# Altium integrated library Analog Devices Data Converters Digital-to-Analog Converters.IntLib: 2231 symbols (part 164 of 181)
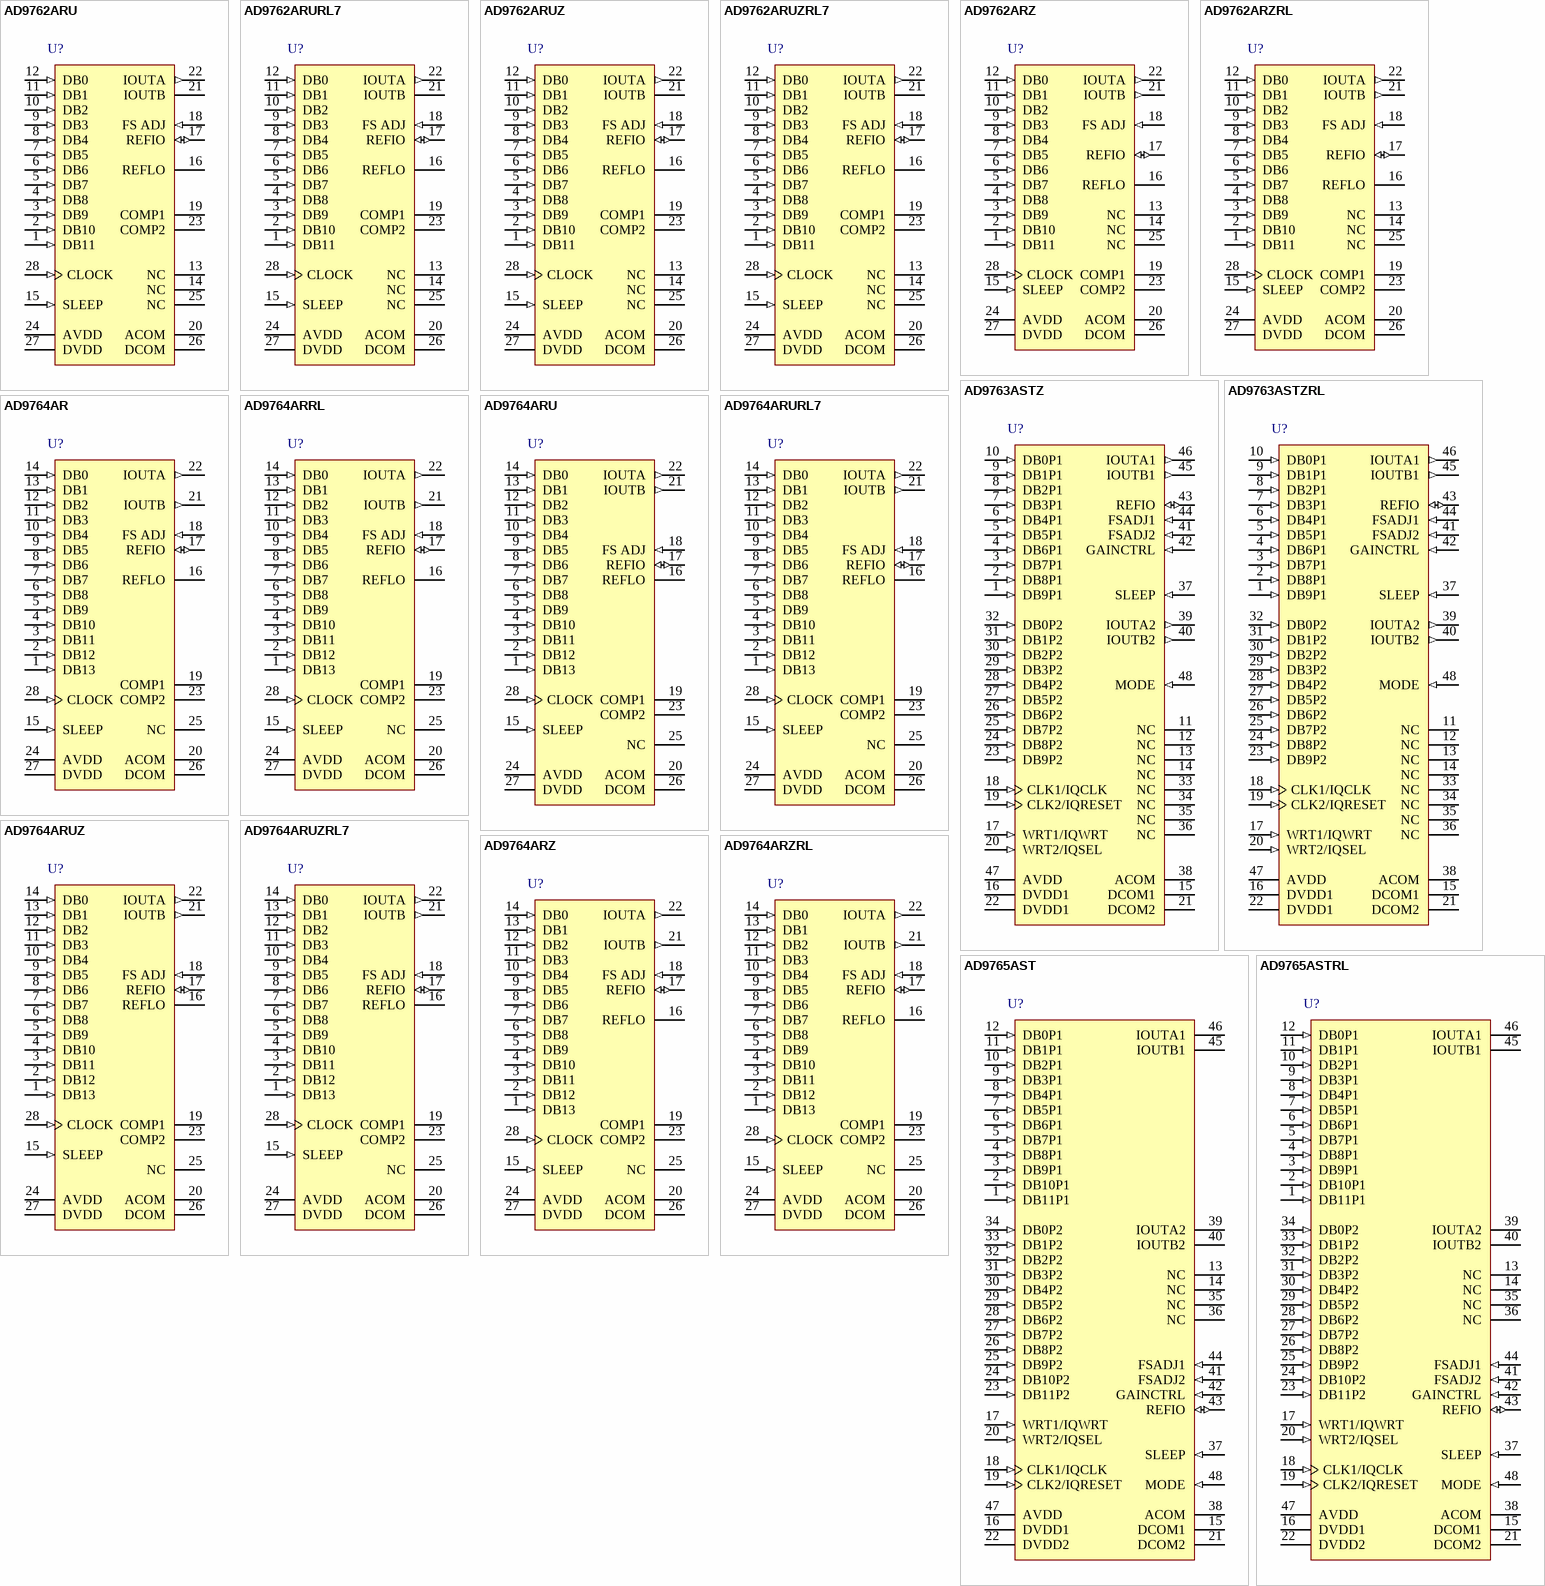
[diagram p277: symbols AD9762ARU to AD9765ASTRL]

## AD9762ARUZRL7
designator U?
Single 12-Bit TxDAC, 125 Msps, -40 to +85 degC, RU-28, Pb-Free, Reel; Generic Part Number: AD9762; Manufacturer: Analog Devices; PartNumber: AD9762ARUZRL7; # DAC Outputs: 1; Max V+: 5.5V; Op Pwr Diss: 160mW; Resolution (Bits): 12; Settling Time: 35ns; Single Supply: Yes; DatasheetVersion: Rev.B; PackageVersion: 2005; PackageReference: RU-28; PackageDescription: 28-Lead Thin Shrink Small Outline Package [TSSOP]; Supplier 1: Digi-Key; Supplier Part Number 1: AD9762ARUZRL7-ND; Supplier 2: Mouser; Supplier Part Number 2: 584-AD9762ARUZR7; Packing: Reel; RoHS: Y; Mounting Technology: Surface Mount; Code_JEDEC: MO-153-AE; ComponentLink1Description: Manufacturer URL; ComponentLink1URL: http://www.analog.com/en/index.html; ComponentLink2Description: Datasheet; ComponentLink2URL: http://www.analog.com/static/imported-files/data_sheets/AD9762.pdf; ComponentLink3Description: Package Specification; ComponentLink3URL: http://www.analog.com/static/imported-files/packages/249854663RU_28.pdf; ComponentLink4Description: Product URL; ComponentLink4URL: http://www.analog.com/en/digital-to-analog-converters/da-converters/ad9762/products/product.html
footprint RU-28_N (TSOP, 28-Leads, Body 9.7x4.4mm, Pitch 0.65mm, IPC Medium Density)
footprint RU-28_L (TSOP, 28-Leads, Body 9.7x4.4mm, Pitch 0.65mm, IPC High Density)
footprint RU-28_M (TSOP, 28-Leads, Body 9.7x4.4mm, Pitch 0.65mm, IPC Low Density)
pins: 1 DB11 (in) "Most Significant Data Bit (MSB).", 2 DB10 (in) "Data Bit 10", 3 DB9 (in) "Data Bit 9", 4 DB8 (in) "Data Bit 8", 5 DB7 (in) "Data Bit 7", 6 DB6 (in) "Data Bit 6", 7 DB5 (in) "Data Bit 5", 8 DB4 (in) "Data Bit 4", 9 DB3 (in) "Data Bit 3", 10 DB2 (in) "Data Bit 2", 11 DB1 (in) "Data Bit 1", 12 DB0 (in) "Least Significant Data Bit (LSB).", 13 NC "No Internal Connection.", 14 NC "No Internal Connection.", 15 SLEEP (in) "Power-down Control Input. Active High. Contains active pull-down circuit, thus may be left unterminated if not used.", 16 REFLO "Reference Ground when Internal 1.2 V Reference Used. Connect to AVDD to disable internal reference.", 17 REFIO (io) "Reference Input/Output. Serves as reference input when internal reference disabled (i.e., Tie REFLO to AVDD). Serves as 1.2 V reference output when internal reference activated (i.e., Tie REFLO to ACOM). Requires 0.1 uF (See Datasheet)", 18 FS ADJ (in) "Full-Scale Current Output Adjust.", 19 COMP1 "Bandwidth/Noise Reduction Node. Add 0.1 uF to AVDD for optimum performance.", 20 ACOM (power) "Analog Common.", 21 IOUTB "Complementary DAC Current Output. Full-scale current when all data bits are 0s.", 22 IOUTA (out) "DAC Current Output. Full-scale current when all data bits are 1s.", 23 COMP2 "Internal Bias Node for Switch Driver Circuitry. Decouple to ACOM with 0.1 uF capacitor.", 24 AVDD (power) "Analog Supply Voltage (+2.7 V to +5.5 V).", 25 NC "No Internal Connection.", 26 DCOM (power) "Digital Common.", 27 DVDD (power) "Digital Supply Voltage (+2.7 V to +5.5 V).", 28 CLOCK (in) "Clock Input. Data latched on positive edge of clock."

## AD9762ARZ
designator U?
Single 12-Bit TxDAC, 125 Msps, -40 to +85 degC, RW-28, Pb-Free, Tube; Generic Part Number: AD9762; Manufacturer: Analog Devices; PartNumber: AD9762ARZ; # DAC Outputs: 1; Max V+: 5.5V; Op Pwr Diss: 160mW; Resolution (Bits): 12; Settling Time: 35ns; Single Supply: Yes; DatasheetVersion: Rev.B; PackageVersion: 060706-A; PackageReference: RW-28; PackageDescription: 28-Lead Standard Small Outline Package [SOIC_W]; Supplier 1: Digi-Key; Supplier Part Number 1: AD9762ARZ-ND; Supplier 2: Farnell; Supplier Part Number 2: 2305703; Supplier 3: Newark; Supplier Part Number 3: 59K7401; Supplier 4: Mouser; Supplier Part Number 4: 584-AD9762ARZ; Packing: Tube; RoHS: Y; Mounting Technology: Surface Mount; Code_JEDEC: MS-013-AE; ComponentLink1Description: Manufacturer URL; ComponentLink1URL: http://www.analog.com/en/index.html; ComponentLink2Description: Datasheet; ComponentLink2URL: http://www.analog.com/static/imported-files/data_sheets/AD9762.pdf; ComponentLink3Description: Product URL; ComponentLink3URL: http://www.analog.com/en/digital-to-analog-converters/da-converters/ad9762/products/product.html
footprint RW-28_N (SOIC, 28-Leads, Body 17.9x7.5mm, Pitch 1.27mm, IPC Medium Density)
footprint RW-28_L (SOIC, 28-Leads, Body 17.9x7.5mm, Pitch 1.27mm, IPC High Density)
footprint RW-28_M (SOIC, 28-Leads, Body 17.9x7.5mm, Pitch 1.27mm, IPC Low Density)
pins: 1 DB11 (in) "Most Significant Data Bit (MSB).", 2 DB10 (in) "Data Bit 10", 3 DB9 (in) "Data Bit 9", 4 DB8 (in) "Data Bit 8", 5 DB7 (in) "Data Bit 7", 6 DB6 (in) "Data Bit 6", 7 DB5 (in) "Data Bit 5", 8 DB4 (in) "Data Bit 4", 9 DB3 (in) "Data Bit 3", 10 DB2 (in) "Data Bit 2", 11 DB1 (in) "Data Bit 1", 12 DB0 (in) "Least Significant Data Bit (LSB).", 13 NC "No Internal Connection.", 14 NC "No Internal Connection.", 15 SLEEP (in) "Power-down Control Input. Active High. Contains active pull-down circuit, thus may be left unterminated if not used.", 16 REFLO "Reference Ground when Internal 1.2 V Reference Used. Connect to AVDD to disable internal reference.", 17 REFIO (io) "Reference Input/Output. Serves as reference input when internal reference disabled (i.e., Tie REFLO to AVDD). Serves as 1.2 V reference output when internal reference activated (i.e., Tie REFLO to ACOM). Requires 0.1 uF (See Datasheet)", 18 FS ADJ (in) "Full-Scale Current Output Adjust.", 19 COMP1 "Bandwidth / Noise Reduction Node. Add 0.1 uF to AVDD for optimum performance.", 20 ACOM (power) "Analog Common.", 21 IOUTB (out) "Complementary DAC Current Output. Full-scale current when all data bits are 0s.", 22 IOUTA (out) "DAC Current Output. Full-scale current when all data bits are 1s.", 23 COMP2 "Internal Bias Node for Switch Driver Circuitry. Decouple to ACOM with 0.1 uF capacitor.", 24 AVDD (power) "Analog Supply Voltage (+2.7 V to +5.5 V).", 25 NC "No Internal Connection.", 26 DCOM (power) "Digital Common.", 27 DVDD (power) "Digital Supply Voltage (+2.7 V to +5.5 V).", 28 CLOCK (in) "Clock Input. Data latched on positive edge of clock."

## AD9762ARZRL
designator U?
Single 12-Bit TxDAC, 125 Msps, -40 to +85 degC, RW-28, Pb-Free, Reel; Generic Part Number: AD9762; Manufacturer: Analog Devices; PartNumber: AD9762ARZRL; # DAC Outputs: 1; Max V+: 5.5V; Op Pwr Diss: 160mW; Resolution (Bits): 12; Settling Time: 35ns; Single Supply: Yes; DatasheetVersion: Rev.B; PackageVersion: 060706-A; PackageReference: RW-28; PackageDescription: 28-Lead Standard Small Outline Package [SOIC_W]; Supplier 1: Digi-Key; Supplier Part Number 1: AD9762ARZRL-ND; Supplier 2: Newark; Supplier Part Number 2: 59K7402; Supplier 3: Mouser; Supplier Part Number 3: 584-AD9762ARZR; Packing: Reel; RoHS: Y; Mounting Technology: Surface Mount; Code_JEDEC: MS-013-AE; ComponentLink1Description: Manufacturer URL; ComponentLink1URL: http://www.analog.com/en/index.html; ComponentLink2Description: Datasheet; ComponentLink2URL: http://www.analog.com/static/imported-files/data_sheets/AD9762.pdf; ComponentLink3Description: Product URL; ComponentLink3URL: http://www.analog.com/en/digital-to-analog-converters/da-converters/ad9762/products/product.html
footprint RW-28_N (SOIC, 28-Leads, Body 17.9x7.5mm, Pitch 1.27mm, IPC Medium Density)
footprint RW-28_L (SOIC, 28-Leads, Body 17.9x7.5mm, Pitch 1.27mm, IPC High Density)
footprint RW-28_M (SOIC, 28-Leads, Body 17.9x7.5mm, Pitch 1.27mm, IPC Low Density)
pins: 1 DB11 (in) "Most Significant Data Bit (MSB).", 2 DB10 (in) "Data Bit 10", 3 DB9 (in) "Data Bit 9", 4 DB8 (in) "Data Bit 8", 5 DB7 (in) "Data Bit 7", 6 DB6 (in) "Data Bit 6", 7 DB5 (in) "Data Bit 5", 8 DB4 (in) "Data Bit 4", 9 DB3 (in) "Data Bit 3", 10 DB2 (in) "Data Bit 2", 11 DB1 (in) "Data Bit 1", 12 DB0 (in) "Least Significant Data Bit (LSB).", 13 NC "No Internal Connection.", 14 NC "No Internal Connection.", 15 SLEEP (in) "Power-down Control Input. Active High. Contains active pull-down circuit, thus may be left unterminated if not used.", 16 REFLO "Reference Ground when Internal 1.2 V Reference Used. Connect to AVDD to disable internal reference.", 17 REFIO (io) "Reference Input/Output. Serves as reference input when internal reference disabled (i.e., Tie REFLO to AVDD). Serves as 1.2 V reference output when internal reference activated (i.e., Tie REFLO to ACOM). Requires 0.1 uF (See Datasheet)", 18 FS ADJ (in) "Full-Scale Current Output Adjust.", 19 COMP1 "Bandwidth / Noise Reduction Node. Add 0.1 uF to AVDD for optimum performance.", 20 ACOM (power) "Analog Common.", 21 IOUTB (out) "Complementary DAC Current Output. Full-scale current when all data bits are 0s.", 22 IOUTA (out) "DAC Current Output. Full-scale current when all data bits are 1s.", 23 COMP2 "Internal Bias Node for Switch Driver Circuitry. Decouple to ACOM with 0.1 uF capacitor.", 24 AVDD (power) "Analog Supply Voltage (+2.7 V to +5.5 V).", 25 NC "No Internal Connection.", 26 DCOM (power) "Digital Common.", 27 DVDD (power) "Digital Supply Voltage (+2.7 V to +5.5 V).", 28 CLOCK (in) "Clock Input. Data latched on positive edge of clock."

## AD9763ASTZ
designator U?
Dual 10-Bit TxDAC+, 125 Msps, -40 to +85 degC, ST-48, Pb-Free, Tray; Generic Part Number: AD9763; Manufacturer: Analog Devices; PartNumber: AD9763ASTZ; # DAC Outputs: 2; Max V+: 5.5V; Op Pwr Diss: 450mW; Resolution (Bits): 10; Settling Time: 35ns; Single Supply: Yes; DatasheetVersion: Rev.G; PackageVersion: revA; PackageReference: ST-48; PackageDescription: 48-Pin Thin Quad Flat Pack 0.5 mm Pitch; Supplier 1: Digi-Key; Supplier Part Number 1: AD9763ASTZ-ND; Supplier 2: Farnell; Supplier Part Number 2: 2305704; Supplier 3: Newark; Supplier Part Number 3: 59K7404; Supplier 4: Mouser; Supplier Part Number 4: 584-AD9763ASTZ; Packing: Tray; RoHS: Y; Mounting Technology: Surface Mount; ComponentLink1Description: Manufacturer URL; ComponentLink1URL: http://www.analog.com/en/index.html; ComponentLink2Description: Datasheet; ComponentLink2URL: http://www.analog.com/static/imported-files/data_sheets/AD9763_9765_9767.pdf; ComponentLink3Description: Package Specification; ComponentLink3URL: http://www.analog.com/static/imported-files/packages/PKG_PDF/LQFP%28ST%29/ST_48.pdf; ComponentLink4Description: Product URL; ComponentLink4URL: http://www.analog.com/en/digital-to-analog-converters/da-converters/ad9763/products/product.html
footprint ST-48_N (Thin QFP, 48-Leads, Body 7x7mm, Pitch 0.5mm, IPC Medium Density)
footprint ST-48_L (Thin QFP, 48-Leads, Body 7x7mm, Pitch 0.5mm, IPC High Density)
footprint ST-48_M (Thin QFP, 48-Leads, Body 7x7mm, Pitch 0.5mm, IPC Low Density)
pins: 1 DB9P1 (in) "Data Bit Pin (Port 1)", 2 DB8P1 (in) "Data Bit Pin (Port 1)", 3 DB7P1 (in) "Data Bit Pin (Port 1)", 4 DB6P1 (in) "Data Bit Pin (Port 1)", 5 DB5P1 (in) "Data Bit Pin (Port 1)", 6 DB4P1 (in) "Data Bit Pin (Port 1)", 7 DB3P1 (in) "Data Bit Pin (Port 1)", 8 DB2P1 (in) "Data Bit Pin (Port 1)", 9 DB1P1 (in) "Data Bit Pin (Port 1)", 10 DB0P1 (in) "Data Bit Pin (Port 1)", 11 NC "No Connect", 12 NC "No Connect", 13 NC "No Connect", 14 NC "No Connect", 15 DCOM1 (power) "Digital Common", 16 DVDD1 (power) "Digital Supply Voltage", 17 WRT1/IQWRT (in) "Input Write Signal for PORT 1 (IQWRT in Interleaving Mode)", 18 CLK1/IQCLK (in) "Clock Input for DAC1 (IQCLK in Interleaving Mode)", 19 CLK2/IQRESET (in) "Clock Input for DAC2 (IQRESET in Interleaving Mode)", 20 WRT2/IQSEL (in) "Input Write Signal for PORT 2 (IQSEL in Interleaving Mode)", 21 DCOM2 (power) "Digital Common", 22 DVDD1 (power) "Digital Supply Voltage", 23 DB9P2 (in) "Data Bit Pin (Port 2)", 24 DB8P2 (in) "Data Bit Pin (Port 2)", 25 DB7P2 (in) "Data Bit Pin (Port 2)", 26 DB6P2 (in) "Data Bit Pin (Port 2)", 27 DB5P2 (in) "Data Bit Pin (Port 2)", 28 DB4P2 (in) "Data Bit Pin (Port 2)", 29 DB3P2 (in) "Data Bit Pin (Port 2)", 30 DB2P2 (in) "Data Bit Pin (Port 2)", 31 DB1P2 (in) "Data Bit Pin (Port 2)", 32 DB0P2 (in) "Data Bit Pin (Port 2)", 33 NC "No Connect", 34 NC "No Connect", 35 NC "No Connect", 36 NC "No Connect", 37 SLEEP (in) "Power-Down Control Input", 38 ACOM (power) "Analog Common", 39 IOUTA2 (out) "Port 2 Differential DAC Current Output", 40 IOUTB2 (out) "Port 2 Differential DAC Current Output", 41 FSADJ2 (in) "Full-Scale Current Output Adjust for DAC2", 42 GAINCTRL (in) "Master/Slave Resistor Control Mode", 43 REFIO (io) "Reference Input/Output", 44 FSADJ1 (in) "Full-Scale Current Output Adjust for DAC1", 45 IOUTB1 (out) "Port 1 Differential DAC Current Outputs", 46 IOUTA1 (out) "Port 1 Differential DAC Current Outputs", 47 AVDD (power) "Analog Supply Voltage", 48 MODE (in) "Mode Select (1 = dual port, 0 = interleaved)"

## AD9763ASTZRL
designator U?
Dual 10-Bit TxDAC+, 125 Msps, -40 to +85 degC, ST-48, Pb-Free, Reel; Generic Part Number: AD9763; Manufacturer: Analog Devices; PartNumber: AD9763ASTZRL; # DAC Outputs: 2; Max V+: 5.5V; Op Pwr Diss: 450mW; Resolution (Bits): 10; Settling Time: 35ns; Single Supply: Yes; DatasheetVersion: Rev.G; PackageVersion: revA; PackageReference: ST-48; PackageDescription: 48-Pin Thin Quad Flat Pack 0.5 mm Pitch; Supplier 1: Digi-Key; Supplier Part Number 1: AD9763ASTZRL-ND; Supplier 2: Mouser; Supplier Part Number 2: 584-AD9763ASTZR; Packing: Reel; RoHS: Y; Mounting Technology: Surface Mount; ComponentLink1Description: Manufacturer URL; ComponentLink1URL: http://www.analog.com/en/index.html; ComponentLink2Description: Datasheet; ComponentLink2URL: http://www.analog.com/static/imported-files/data_sheets/AD9763_9765_9767.pdf; ComponentLink3Description: Package Specification; ComponentLink3URL: http://www.analog.com/static/imported-files/packages/PKG_PDF/LQFP%28ST%29/ST_48.pdf; ComponentLink4Description: Product URL; ComponentLink4URL: http://www.analog.com/en/digital-to-analog-converters/da-converters/ad9763/products/product.html
footprint ST-48_N (Thin QFP, 48-Leads, Body 7x7mm, Pitch 0.5mm, IPC Medium Density)
footprint ST-48_L (Thin QFP, 48-Leads, Body 7x7mm, Pitch 0.5mm, IPC High Density)
footprint ST-48_M (Thin QFP, 48-Leads, Body 7x7mm, Pitch 0.5mm, IPC Low Density)
pins: 1 DB9P1 (in) "Data Bit Pin (Port 1)", 2 DB8P1 (in) "Data Bit Pin (Port 1)", 3 DB7P1 (in) "Data Bit Pin (Port 1)", 4 DB6P1 (in) "Data Bit Pin (Port 1)", 5 DB5P1 (in) "Data Bit Pin (Port 1)", 6 DB4P1 (in) "Data Bit Pin (Port 1)", 7 DB3P1 (in) "Data Bit Pin (Port 1)", 8 DB2P1 (in) "Data Bit Pin (Port 1)", 9 DB1P1 (in) "Data Bit Pin (Port 1)", 10 DB0P1 (in) "Data Bit Pin (Port 1)", 11 NC "No Connect", 12 NC "No Connect", 13 NC "No Connect", 14 NC "No Connect", 15 DCOM1 (power) "Digital Common", 16 DVDD1 (power) "Digital Supply Voltage", 17 WRT1/IQWRT (in) "Input Write Signal for PORT 1 (IQWRT in Interleaving Mode)", 18 CLK1/IQCLK (in) "Clock Input for DAC1 (IQCLK in Interleaving Mode)", 19 CLK2/IQRESET (in) "Clock Input for DAC2 (IQRESET in Interleaving Mode)", 20 WRT2/IQSEL (in) "Input Write Signal for PORT 2 (IQSEL in Interleaving Mode)", 21 DCOM2 (power) "Digital Common", 22 DVDD1 (power) "Digital Supply Voltage", 23 DB9P2 (in) "Data Bit Pin (Port 2)", 24 DB8P2 (in) "Data Bit Pin (Port 2)", 25 DB7P2 (in) "Data Bit Pin (Port 2)", 26 DB6P2 (in) "Data Bit Pin (Port 2)", 27 DB5P2 (in) "Data Bit Pin (Port 2)", 28 DB4P2 (in) "Data Bit Pin (Port 2)", 29 DB3P2 (in) "Data Bit Pin (Port 2)", 30 DB2P2 (in) "Data Bit Pin (Port 2)", 31 DB1P2 (in) "Data Bit Pin (Port 2)", 32 DB0P2 (in) "Data Bit Pin (Port 2)", 33 NC "No Connect", 34 NC "No Connect", 35 NC "No Connect", 36 NC "No Connect", 37 SLEEP (in) "Power-Down Control Input", 38 ACOM (power) "Analog Common", 39 IOUTA2 (out) "Port 2 Differential DAC Current Output", 40 IOUTB2 (out) "Port 2 Differential DAC Current Output", 41 FSADJ2 (in) "Full-Scale Current Output Adjust for DAC2", 42 GAINCTRL (in) "Master/Slave Resistor Control Mode", 43 REFIO (io) "Reference Input/Output", 44 FSADJ1 (in) "Full-Scale Current Output Adjust for DAC1", 45 IOUTB1 (out) "Port 1 Differential DAC Current Outputs", 46 IOUTA1 (out) "Port 1 Differential DAC Current Outputs", 47 AVDD (power) "Analog Supply Voltage", 48 MODE (in) "Mode Select (1 = dual port, 0 = interleaved)"

## AD9764AR
designator U?
Single 14-Bit TxDAC, 125 Msps, -40 to +85 degC, RW-28, Tube; Generic Part Number: AD9764; Manufacturer: Analog Devices; PartNumber: AD9764AR; # DAC Outputs: 1; Max V+: 5.5V; Op Pwr Diss: 170mW; Resolution (Bits): 14; Settling Time: 35ns; Single Supply: Yes; DatasheetVersion: Rev.B; PackageVersion: 060706-A; PackageReference: RW-28; PackageDescription: 28-Lead Standard Small Outline Package [SOIC_W]; Supplier 1: Digi-Key; Supplier Part Number 1: AD9764AR-ND; Supplier 2: Mouser; Supplier Part Number 2: 584-AD9764AR; Packing: Tube; RoHS: N; Mounting Technology: Surface Mount; Code_JEDEC: MS-013-AE; ComponentLink1Description: Manufacturer URL; ComponentLink1URL: http://www.analog.com/en/index.html; ComponentLink2Description: Datasheet; ComponentLink2URL: http://www.analog.com/static/imported-files/data_sheets/AD9764.pdf; ComponentLink3Description: Product URL; ComponentLink3URL: http://www.analog.com/en/digital-to-analog-converters/da-converters/ad9764/products/product.html
footprint RW-28_N (SOIC, 28-Leads, Body 17.9x7.5mm, Pitch 1.27mm, IPC Medium Density)
footprint RW-28_L (SOIC, 28-Leads, Body 17.9x7.5mm, Pitch 1.27mm, IPC High Density)
footprint RW-28_M (SOIC, 28-Leads, Body 17.9x7.5mm, Pitch 1.27mm, IPC Low Density)
pins: 1 DB13 (in) "Most Significant Data Bit 13 (MSB).", 2 DB12 (in) "Data Bit 12.", 3 DB11 (in) "Data Bit 11.", 4 DB10 (in) "Data Bit 10.", 5 DB9 (in) "Data Bit 9.", 6 DB8 (in) "Data Bit 8.", 7 DB7 (in) "Data Bit 7.", 8 DB6 (in) "Data Bit 6.", 9 DB5 (in) "Data Bit 5.", 10 DB4 (in) "Data Bit 4.", 11 DB3 (in) "Data Bit 3.", 12 DB2 (in) "Data Bit 2.", 13 DB1 (in) "Data Bit 1.", 14 DB0 (in) "Least Significant Data Bit 0 (LSB).", 15 SLEEP (in) "Power-Down Control Input. Active High. Contains active pull-down circuit, thus may be left unterminated if not used.", 16 REFLO "Reference Ground when Internal 1.2 V Reference Used. Connect to AVDD to disable internal reference.", 17 REFIO (io) "Reference Input/Output. Serves as reference input when internal reference disabled (i.e., Tie REFLO to AVDD). Serves as 1.2 V reference output when internal reference activated (i.e., Tie REFLO to ACOM). Requires 0.1 µF (See Datasheet)", 18 FS ADJ (in) "Full-Scale Current Output Adjust.", 19 COMP1 "Bandwidth/Noise Reduction Node. Add 0.1 µF to AVDD for optimum performance.", 20 ACOM (power) "Analog Common.", 21 IOUTB (out) "Complementary DAC Current Output. Full-scale current when all data bits are 0s.", 22 IOUTA (out) "DAC Current Output. Full-scale current when all data bits are 1s.", 23 COMP2 "Internal Bias Node for Switch Driver Circuitry. Decouple to ACOM with 0.1 µF capacitor.", 24 AVDD (power) "Analog Supply Voltage (+2.7 V to +5.5 V).", 25 NC "No Internal Connection.", 26 DCOM (power) "Digital Common.", 27 DVDD (power) "Digital Supply Voltage (+2.7 V to +5.5 V).", 28 CLOCK (in) "Clock Input.  Data latched on positive edge of clock."

## AD9764ARRL
designator U?
Single 14-Bit TxDAC, 125 Msps, -40 to +85 degC, RW-28, Reel; Generic Part Number: AD9764; Manufacturer: Analog Devices; PartNumber: AD9764ARRL; # DAC Outputs: 1; Max V+: 5.5V; Op Pwr Diss: 170mW; Resolution (Bits): 14; Settling Time: 35ns; Single Supply: Yes; DatasheetVersion: Rev.B; PackageVersion: 060706-A; PackageReference: RW-28; PackageDescription: 28-Lead Standard Small Outline Package [SOIC_W]; Supplier 1: Digi-Key; Supplier Part Number 1: AD9764ARRL-ND; Supplier 2: Newark; Supplier Part Number 2: 98B7488; Supplier 3: Mouser; Supplier Part Number 3: 584-AD9764ARR; Packing: Reel; RoHS: N; Mounting Technology: Surface Mount; Code_JEDEC: MS-013-AE; ComponentLink1Description: Manufacturer URL; ComponentLink1URL: http://www.analog.com/en/index.html; ComponentLink2Description: Datasheet; ComponentLink2URL: http://www.analog.com/static/imported-files/data_sheets/AD9764.pdf; ComponentLink3Description: Product URL; ComponentLink3URL: http://www.analog.com/en/digital-to-analog-converters/da-converters/ad9764/products/product.html
footprint RW-28_N (SOIC, 28-Leads, Body 17.9x7.5mm, Pitch 1.27mm, IPC Medium Density)
footprint RW-28_L (SOIC, 28-Leads, Body 17.9x7.5mm, Pitch 1.27mm, IPC High Density)
footprint RW-28_M (SOIC, 28-Leads, Body 17.9x7.5mm, Pitch 1.27mm, IPC Low Density)
pins: 1 DB13 (in) "Most Significant Data Bit 13 (MSB).", 2 DB12 (in) "Data Bit 12.", 3 DB11 (in) "Data Bit 11.", 4 DB10 (in) "Data Bit 10.", 5 DB9 (in) "Data Bit 9.", 6 DB8 (in) "Data Bit 8.", 7 DB7 (in) "Data Bit 7.", 8 DB6 (in) "Data Bit 6.", 9 DB5 (in) "Data Bit 5.", 10 DB4 (in) "Data Bit 4.", 11 DB3 (in) "Data Bit 3.", 12 DB2 (in) "Data Bit 2.", 13 DB1 (in) "Data Bit 1.", 14 DB0 (in) "Least Significant Data Bit 0 (LSB).", 15 SLEEP (in) "Power-Down Control Input. Active High. Contains active pull-down circuit, thus may be left unterminated if not used.", 16 REFLO "Reference Ground when Internal 1.2 V Reference Used. Connect to AVDD to disable internal reference.", 17 REFIO (io) "Reference Input/Output. Serves as reference input when internal reference disabled (i.e., Tie REFLO to AVDD). Serves as 1.2 V reference output when internal reference activated (i.e., Tie REFLO to ACOM). Requires 0.1 µF (See Datasheet)", 18 FS ADJ (in) "Full-Scale Current Output Adjust.", 19 COMP1 "Bandwidth/Noise Reduction Node. Add 0.1 µF to AVDD for optimum performance.", 20 ACOM (power) "Analog Common.", 21 IOUTB (out) "Complementary DAC Current Output. Full-scale current when all data bits are 0s.", 22 IOUTA (out) "DAC Current Output. Full-scale current when all data bits are 1s.", 23 COMP2 "Internal Bias Node for Switch Driver Circuitry. Decouple to ACOM with 0.1 µF capacitor.", 24 AVDD (power) "Analog Supply Voltage (+2.7 V to +5.5 V).", 25 NC "No Internal Connection.", 26 DCOM (power) "Digital Common.", 27 DVDD (power) "Digital Supply Voltage (+2.7 V to +5.5 V).", 28 CLOCK (in) "Clock Input.  Data latched on positive edge of clock."

## AD9764ARU
designator U?
Single 14-Bit TxDAC, 125 Msps, -40 to +85 degC, RU-28, Tube; Generic Part Number: AD9764; Manufacturer: Analog Devices; PartNumber: AD9764ARU; # DAC Outputs: 1; Max V+: 5.5V; Op Pwr Diss: 170mW; Resolution (Bits): 14; Settling Time: 35ns; Single Supply: Yes; DatasheetVersion: Rev.B; PackageVersion: 2005; PackageReference: RU-28; PackageDescription: 28-Lead Thin Shrink Small Outline Package [TSSOP]; Supplier 1: Digi-Key; Supplier Part Number 1: AD9764ARU-ND; Supplier 2: Mouser; Supplier Part Number 2: 584-AD9764ARU; Packing: Tube; RoHS: N; Mounting Technology: Surface Mount; Code_JEDEC: MO-153-AE; ComponentLink1Description: Manufacturer URL; ComponentLink1URL: http://www.analog.com/en/index.html; ComponentLink2Description: Datasheet; ComponentLink2URL: http://www.analog.com/static/imported-files/data_sheets/AD9764.pdf; ComponentLink3Description: Package Specification; ComponentLink3URL: http://www.analog.com/static/imported-files/packages/249854663RU_28.pdf; ComponentLink4Description: Product URL; ComponentLink4URL: http://www.analog.com/en/digital-to-analog-converters/da-converters/ad9764/products/product.html
footprint RU-28_N (TSOP, 28-Leads, Body 9.7x4.4mm, Pitch 0.65mm, IPC Medium Density)
footprint RU-28_L (TSOP, 28-Leads, Body 9.7x4.4mm, Pitch 0.65mm, IPC High Density)
footprint RU-28_M (TSOP, 28-Leads, Body 9.7x4.4mm, Pitch 0.65mm, IPC Low Density)
pins: 1 DB13 (in) "Most Significant Data Bit (MSB).", 2 DB12 (in) "Data Bit.", 3 DB11 (in) "Data Bit.", 4 DB10 (in) "Data Bit.", 5 DB9 (in) "Data Bit.", 6 DB8 (in) "Data Bit.", 7 DB7 (in) "Data Bit.", 8 DB6 (in) "Data Bit.", 9 DB5 (in) "Data Bit.", 10 DB4 (in) "Data Bit.", 11 DB3 (in) "Data Bit.", 12 DB2 (in) "Data Bit.", 13 DB1 (in) "Data Bit.", 14 DB0 (in) "Least Significant Data Bit (LSB).", 15 SLEEP (in) "Power-Down Control Input. Active High. Contains active pull-down circuit, thus may be left unterminated if not used.", 16 REFLO "Reference Ground when Internal 1.2 V Reference Used. Connect to AVDD to disable internal reference.", 17 REFIO (io) "Reference Input/Output. Serves as reference input when internal reference disabled (i.e., Tie REFLO to AVDD). Serves as 1.2 V reference output when internal reference activated (i.e., Tie REFLO to ACOM). Requires 0.1 µF (See Datasheet)", 18 FS ADJ (in) "Full-Scale Current Output Adjust.", 19 COMP1 "Bandwidth/Noise Reduction Node. Add 0.1 µF to AVDD for optimum performance.", 20 ACOM (power) "Analog Common.", 21 IOUTB (out) "Complementary DAC Current Output. Full-scale current when all data bits are 0s.", 22 IOUTA (out) "DAC Current Output. Full-scale current when all data bits are 1s.", 23 COMP2 "Internal Bias Node for Switch Driver Circuitry. Decouple to ACOM with 0.1 µF capacitor.", 24 AVDD (power) "Analog Supply Voltage (+2.7 V to +5.5 V).", 25 NC "No Internal Connection.", 26 DCOM (power) "Digital Common.", 27 DVDD (power) "Digital Supply Voltage (+2.7 V to +5.5 V).", 28 CLOCK (in) "Clock Input.  Data latched on positive edge of clock."

## AD9764ARURL7
designator U?
Single 14-Bit TxDAC, 125 Msps, -40 to +85 degC, RU-28, Reel; Generic Part Number: AD9764; Manufacturer: Analog Devices; PartNumber: AD9764ARURL7; # DAC Outputs: 1; Max V+: 5.5V; Op Pwr Diss: 170mW; Resolution (Bits): 14; Settling Time: 35ns; Single Supply: Yes; DatasheetVersion: Rev.B; PackageVersion: 2005; PackageReference: RU-28; PackageDescription: 28-Lead Thin Shrink Small Outline Package [TSSOP]; Supplier 1: Digi-Key; Supplier Part Number 1: AD9764ARURL7-ND; Supplier 2: Mouser; Supplier Part Number 2: 584-AD9764ARUR7; Packing: Reel; RoHS: N; Mounting Technology: Surface Mount; Code_JEDEC: MO-153-AE; ComponentLink1Description: Manufacturer URL; ComponentLink1URL: http://www.analog.com/en/index.html; ComponentLink2Description: Datasheet; ComponentLink2URL: http://www.analog.com/static/imported-files/data_sheets/AD9764.pdf; ComponentLink3Description: Package Specification; ComponentLink3URL: http://www.analog.com/static/imported-files/packages/249854663RU_28.pdf; ComponentLink4Description: Product URL; ComponentLink4URL: http://www.analog.com/en/digital-to-analog-converters/da-converters/ad9764/products/product.html
footprint RU-28_N (TSOP, 28-Leads, Body 9.7x4.4mm, Pitch 0.65mm, IPC Medium Density)
footprint RU-28_L (TSOP, 28-Leads, Body 9.7x4.4mm, Pitch 0.65mm, IPC High Density)
footprint RU-28_M (TSOP, 28-Leads, Body 9.7x4.4mm, Pitch 0.65mm, IPC Low Density)
pins: 1 DB13 (in) "Most Significant Data Bit (MSB).", 2 DB12 (in) "Data Bit.", 3 DB11 (in) "Data Bit.", 4 DB10 (in) "Data Bit.", 5 DB9 (in) "Data Bit.", 6 DB8 (in) "Data Bit.", 7 DB7 (in) "Data Bit.", 8 DB6 (in) "Data Bit.", 9 DB5 (in) "Data Bit.", 10 DB4 (in) "Data Bit.", 11 DB3 (in) "Data Bit.", 12 DB2 (in) "Data Bit.", 13 DB1 (in) "Data Bit.", 14 DB0 (in) "Least Significant Data Bit (LSB).", 15 SLEEP (in) "Power-Down Control Input. Active High. Contains active pull-down circuit, thus may be left unterminated if not used.", 16 REFLO "Reference Ground when Internal 1.2 V Reference Used. Connect to AVDD to disable internal reference.", 17 REFIO (io) "Reference Input/Output. Serves as reference input when internal reference disabled (i.e., Tie REFLO to AVDD). Serves as 1.2 V reference output when internal reference activated (i.e., Tie REFLO to ACOM). Requires 0.1 µF (See Datasheet)", 18 FS ADJ (in) "Full-Scale Current Output Adjust.", 19 COMP1 "Bandwidth/Noise Reduction Node. Add 0.1 µF to AVDD for optimum performance.", 20 ACOM (power) "Analog Common.", 21 IOUTB (out) "Complementary DAC Current Output. Full-scale current when all data bits are 0s.", 22 IOUTA (out) "DAC Current Output. Full-scale current when all data bits are 1s.", 23 COMP2 "Internal Bias Node for Switch Driver Circuitry. Decouple to ACOM with 0.1 µF capacitor.", 24 AVDD (power) "Analog Supply Voltage (+2.7 V to +5.5 V).", 25 NC "No Internal Connection.", 26 DCOM (power) "Digital Common.", 27 DVDD (power) "Digital Supply Voltage (+2.7 V to +5.5 V).", 28 CLOCK (in) "Clock Input.  Data latched on positive edge of clock."

## AD9764ARUZ
designator U?
Single 14-Bit TxDAC, 125 Msps, -40 to +85 degC, RU-28, Pb-Free, Tube; Generic Part Number: AD9764; Manufacturer: Analog Devices; PartNumber: AD9764ARUZ; # DAC Outputs: 1; Max V+: 5.5V; Op Pwr Diss: 170mW; Resolution (Bits): 14; Settling Time: 35ns; Single Supply: Yes; DatasheetVersion: Rev.B; PackageVersion: 2005; PackageReference: RU-28; PackageDescription: 28-Lead Thin Shrink Small Outline Package [TSSOP]; Supplier 1: Digi-Key; Supplier Part Number 1: AD9764ARUZ-ND; Supplier 2: Farnell; Supplier Part Number 2: 2312817; Supplier 3: Newark; Supplier Part Number 3: 59K7406; Supplier 4: Mouser; Supplier Part Number 4: 584-AD9764ARUZ; Packing: Tube; RoHS: Y; Mounting Technology: Surface Mount; Code_JEDEC: MO-153-AE; ComponentLink1Description: Manufacturer URL; ComponentLink1URL: http://www.analog.com/en/index.html; ComponentLink2Description: Datasheet; ComponentLink2URL: http://www.analog.com/static/imported-files/data_sheets/AD9764.pdf; ComponentLink3Description: Package Specification; ComponentLink3URL: http://www.analog.com/static/imported-files/packages/249854663RU_28.pdf; ComponentLink4Description: Product URL; ComponentLink4URL: http://www.analog.com/en/digital-to-analog-converters/da-converters/ad9764/products/product.html
footprint RU-28_N (TSOP, 28-Leads, Body 9.7x4.4mm, Pitch 0.65mm, IPC Medium Density)
footprint RU-28_L (TSOP, 28-Leads, Body 9.7x4.4mm, Pitch 0.65mm, IPC High Density)
footprint RU-28_M (TSOP, 28-Leads, Body 9.7x4.4mm, Pitch 0.65mm, IPC Low Density)
pins: 1 DB13 (in) "Most Significant Data Bit (MSB).", 2 DB12 (in) "Data Bit.", 3 DB11 (in) "Data Bit.", 4 DB10 (in) "Data Bit.", 5 DB9 (in) "Data Bit.", 6 DB8 (in) "Data Bit.", 7 DB7 (in) "Data Bit.", 8 DB6 (in) "Data Bit.", 9 DB5 (in) "Data Bit.", 10 DB4 (in) "Data Bit.", 11 DB3 (in) "Data Bit.", 12 DB2 (in) "Data Bit.", 13 DB1 (in) "Data Bit.", 14 DB0 (in) "Least Significant Data Bit (LSB).", 15 SLEEP (in) "Power-Down Control Input. Active High. Contains active pull-down circuit, thus may be left unterminated if not used.", 16 REFLO "Reference Ground when Internal 1.2 V Reference Used. Connect to AVDD to disable internal reference.", 17 REFIO (io) "Reference Input/Output. Serves as reference input when internal reference disabled (i.e., Tie REFLO to AVDD). Serves as 1.2 V reference output when internal reference activated (i.e., Tie REFLO to ACOM). Requires 0.1 µF (See Datasheet)", 18 FS ADJ (in) "Full-Scale Current Output Adjust.", 19 COMP1 "Bandwidth/Noise Reduction Node. Add 0.1 µF to AVDD for optimum performance.", 20 ACOM (power) "Analog Common.", 21 IOUTB (out) "Complementary DAC Current Output. Full-scale current when all data bits are 0s.", 22 IOUTA (out) "DAC Current Output. Full-scale current when all data bits are 1s.", 23 COMP2 "Internal Bias Node for Switch Driver Circuitry. Decouple to ACOM with 0.1 µF capacitor.", 24 AVDD (power) "Analog Supply Voltage (+2.7 V to +5.5 V).", 25 NC "No Internal Connection.", 26 DCOM (power) "Digital Common.", 27 DVDD (power) "Digital Supply Voltage (+2.7 V to +5.5 V).", 28 CLOCK (in) "Clock Input.  Data latched on positive edge of clock."

## AD9764ARUZRL7
designator U?
Single 14-Bit TxDAC, 125 Msps, -40 to +85 degC, RU-28, Pb-Free, Reel; Generic Part Number: AD9764; Manufacturer: Analog Devices; PartNumber: AD9764ARUZRL7; # DAC Outputs: 1; Max V+: 5.5V; Op Pwr Diss: 170mW; Resolution (Bits): 14; Settling Time: 35ns; Single Supply: Yes; DatasheetVersion: Rev.B; PackageVersion: 2005; PackageReference: RU-28; PackageDescription: 28-Lead Thin Shrink Small Outline Package [TSSOP]; Supplier 1: Digi-Key; Supplier Part Number 1: AD9764ARUZRL7-ND; Supplier 2: Newark; Supplier Part Number 2: 59K7407; Supplier 3: Mouser; Supplier Part Number 3: 584-AD9764ARUZR7; Packing: Reel; RoHS: Y; Mounting Technology: Surface Mount; Code_JEDEC: MO-153-AE; ComponentLink1Description: Manufacturer URL; ComponentLink1URL: http://www.analog.com/en/index.html; ComponentLink2Description: Datasheet; ComponentLink2URL: http://www.analog.com/static/imported-files/data_sheets/AD9764.pdf; ComponentLink3Description: Package Specification; ComponentLink3URL: http://www.analog.com/static/imported-files/packages/249854663RU_28.pdf; ComponentLink4Description: Product URL; ComponentLink4URL: http://www.analog.com/en/digital-to-analog-converters/da-converters/ad9764/products/product.html
footprint RU-28_N (TSOP, 28-Leads, Body 9.7x4.4mm, Pitch 0.65mm, IPC Medium Density)
footprint RU-28_L (TSOP, 28-Leads, Body 9.7x4.4mm, Pitch 0.65mm, IPC High Density)
footprint RU-28_M (TSOP, 28-Leads, Body 9.7x4.4mm, Pitch 0.65mm, IPC Low Density)
pins: 1 DB13 (in) "Most Significant Data Bit (MSB).", 2 DB12 (in) "Data Bit.", 3 DB11 (in) "Data Bit.", 4 DB10 (in) "Data Bit.", 5 DB9 (in) "Data Bit.", 6 DB8 (in) "Data Bit.", 7 DB7 (in) "Data Bit.", 8 DB6 (in) "Data Bit.", 9 DB5 (in) "Data Bit.", 10 DB4 (in) "Data Bit.", 11 DB3 (in) "Data Bit.", 12 DB2 (in) "Data Bit.", 13 DB1 (in) "Data Bit.", 14 DB0 (in) "Least Significant Data Bit (LSB).", 15 SLEEP (in) "Power-Down Control Input. Active High. Contains active pull-down circuit, thus may be left unterminated if not used.", 16 REFLO "Reference Ground when Internal 1.2 V Reference Used. Connect to AVDD to disable internal reference.", 17 REFIO (io) "Reference Input/Output. Serves as reference input when internal reference disabled (i.e., Tie REFLO to AVDD). Serves as 1.2 V reference output when internal reference activated (i.e., Tie REFLO to ACOM). Requires 0.1 µF (See Datasheet)", 18 FS ADJ (in) "Full-Scale Current Output Adjust.", 19 COMP1 "Bandwidth/Noise Reduction Node. Add 0.1 µF to AVDD for optimum performance.", 20 ACOM (power) "Analog Common.", 21 IOUTB (out) "Complementary DAC Current Output. Full-scale current when all data bits are 0s.", 22 IOUTA (out) "DAC Current Output. Full-scale current when all data bits are 1s.", 23 COMP2 "Internal Bias Node for Switch Driver Circuitry. Decouple to ACOM with 0.1 µF capacitor.", 24 AVDD (power) "Analog Supply Voltage (+2.7 V to +5.5 V).", 25 NC "No Internal Connection.", 26 DCOM (power) "Digital Common.", 27 DVDD (power) "Digital Supply Voltage (+2.7 V to +5.5 V).", 28 CLOCK (in) "Clock Input.  Data latched on positive edge of clock."

## AD9764ARZ
designator U?
Single 14-Bit TxDAC, 125 Msps, -40 to +85 degC, RW-28, Pb-Free, Tube; Generic Part Number: AD9764; Manufacturer: Analog Devices; PartNumber: AD9764ARZ; # DAC Outputs: 1; Max V+: 5.5V; Op Pwr Diss: 170mW; Resolution (Bits): 14; Settling Time: 35ns; Single Supply: Yes; DatasheetVersion: Rev.B; PackageVersion: 060706-A; PackageReference: RW-28; PackageDescription: 28-Lead Standard Small Outline Package [SOIC_W]; Supplier 1: Digi-Key; Supplier Part Number 1: AD9764ARZ-ND; Supplier 2: Farnell; Supplier Part Number 2: 9425640; Supplier 3: Newark; Supplier Part Number 3: 59K7408; Supplier 4: Mouser; Supplier Part Number 4: 584-AD9764ARZ; Packing: Tube; RoHS: Y; Mounting Technology: Surface Mount; Code_JEDEC: MS-013-AE; ComponentLink1Description: Manufacturer URL; ComponentLink1URL: http://www.analog.com/en/index.html; ComponentLink2Description: Datasheet; ComponentLink2URL: http://www.analog.com/static/imported-files/data_sheets/AD9764.pdf; ComponentLink3Description: Product URL; ComponentLink3URL: http://www.analog.com/en/digital-to-analog-converters/da-converters/ad9764/products/product.html
footprint RW-28_N (SOIC, 28-Leads, Body 17.9x7.5mm, Pitch 1.27mm, IPC Medium Density)
footprint RW-28_L (SOIC, 28-Leads, Body 17.9x7.5mm, Pitch 1.27mm, IPC High Density)
footprint RW-28_M (SOIC, 28-Leads, Body 17.9x7.5mm, Pitch 1.27mm, IPC Low Density)
pins: 1 DB13 (in) "Most Significant Data Bit 13 (MSB).", 2 DB12 (in) "Data Bit 12.", 3 DB11 (in) "Data Bit 11.", 4 DB10 (in) "Data Bit 10.", 5 DB9 (in) "Data Bit 9.", 6 DB8 (in) "Data Bit 8.", 7 DB7 (in) "Data Bit 7.", 8 DB6 (in) "Data Bit 6.", 9 DB5 (in) "Data Bit 5.", 10 DB4 (in) "Data Bit 4.", 11 DB3 (in) "Data Bit 3.", 12 DB2 (in) "Data Bit 2.", 13 DB1 (in) "Data Bit 1.", 14 DB0 (in) "Least Significant Data Bit 0 (LSB).", 15 SLEEP (in) "Power-Down Control Input. Active High. Contains active pull-down circuit, thus may be left unterminated if not used.", 16 REFLO "Reference Ground when Internal 1.2 V Reference Used. Connect to AVDD to disable internal reference.", 17 REFIO (io) "Reference Input/Output. Serves as reference input when internal reference disabled (i.e., Tie REFLO to AVDD). Serves as 1.2 V reference output when internal reference activated (i.e., Tie REFLO to ACOM). Requires 0.1 µF (See Datasheet)", 18 FS ADJ (in) "Full-Scale Current Output Adjust.", 19 COMP1 "Bandwidth/Noise Reduction Node. Add 0.1 µF to AVDD for optimum performance.", 20 ACOM (power) "Analog Common.", 21 IOUTB (out) "Complementary DAC Current Output. Full-scale current when all data bits are 0s.", 22 IOUTA (out) "DAC Current Output. Full-scale current when all data bits are 1s.", 23 COMP2 "Internal Bias Node for Switch Driver Circuitry. Decouple to ACOM with 0.1 µF capacitor.", 24 AVDD (power) "Analog Supply Voltage (+2.7 V to +5.5 V).", 25 NC "No Internal Connection.", 26 DCOM (power) "Digital Common.", 27 DVDD (power) "Digital Supply Voltage (+2.7 V to +5.5 V).", 28 CLOCK (in) "Clock Input.  Data latched on positive edge of clock."

## AD9764ARZRL
designator U?
Single 14-Bit TxDAC, 125 Msps, -40 to +85 degC, RW-28, Pb-Free, Reel; Generic Part Number: AD9764; Manufacturer: Analog Devices; PartNumber: AD9764ARZRL; # DAC Outputs: 1; Max V+: 5.5V; Op Pwr Diss: 170mW; Resolution (Bits): 14; Settling Time: 35ns; Single Supply: Yes; DatasheetVersion: Rev.B; PackageVersion: 060706-A; PackageReference: RW-28; PackageDescription: 28-Lead Standard Small Outline Package [SOIC_W]; Supplier 1: Digi-Key; Supplier Part Number 1: AD9764ARZRL-ND; Supplier 2: Mouser; Supplier Part Number 2: 584-AD9764ARZR; Packing: Reel; RoHS: Y; Mounting Technology: Surface Mount; Code_JEDEC: MS-013-AE; ComponentLink1Description: Manufacturer URL; ComponentLink1URL: http://www.analog.com/en/index.html; ComponentLink2Description: Datasheet; ComponentLink2URL: http://www.analog.com/static/imported-files/data_sheets/AD9764.pdf; ComponentLink3Description: Product URL; ComponentLink3URL: http://www.analog.com/en/digital-to-analog-converters/da-converters/ad9764/products/product.html
footprint RW-28_N (SOIC, 28-Leads, Body 17.9x7.5mm, Pitch 1.27mm, IPC Medium Density)
footprint RW-28_L (SOIC, 28-Leads, Body 17.9x7.5mm, Pitch 1.27mm, IPC High Density)
footprint RW-28_M (SOIC, 28-Leads, Body 17.9x7.5mm, Pitch 1.27mm, IPC Low Density)
pins: 1 DB13 (in) "Most Significant Data Bit 13 (MSB).", 2 DB12 (in) "Data Bit 12.", 3 DB11 (in) "Data Bit 11.", 4 DB10 (in) "Data Bit 10.", 5 DB9 (in) "Data Bit 9.", 6 DB8 (in) "Data Bit 8.", 7 DB7 (in) "Data Bit 7.", 8 DB6 (in) "Data Bit 6.", 9 DB5 (in) "Data Bit 5.", 10 DB4 (in) "Data Bit 4.", 11 DB3 (in) "Data Bit 3.", 12 DB2 (in) "Data Bit 2.", 13 DB1 (in) "Data Bit 1.", 14 DB0 (in) "Least Significant Data Bit 0 (LSB).", 15 SLEEP (in) "Power-Down Control Input. Active High. Contains active pull-down circuit, thus may be left unterminated if not used.", 16 REFLO "Reference Ground when Internal 1.2 V Reference Used. Connect to AVDD to disable internal reference.", 17 REFIO (io) "Reference Input/Output. Serves as reference input when internal reference disabled (i.e., Tie REFLO to AVDD). Serves as 1.2 V reference output when internal reference activated (i.e., Tie REFLO to ACOM). Requires 0.1 µF (See Datasheet)", 18 FS ADJ (in) "Full-Scale Current Output Adjust.", 19 COMP1 "Bandwidth/Noise Reduction Node. Add 0.1 µF to AVDD for optimum performance.", 20 ACOM (power) "Analog Common.", 21 IOUTB (out) "Complementary DAC Current Output. Full-scale current when all data bits are 0s.", 22 IOUTA (out) "DAC Current Output. Full-scale current when all data bits are 1s.", 23 COMP2 "Internal Bias Node for Switch Driver Circuitry. Decouple to ACOM with 0.1 µF capacitor.", 24 AVDD (power) "Analog Supply Voltage (+2.7 V to +5.5 V).", 25 NC "No Internal Connection.", 26 DCOM (power) "Digital Common.", 27 DVDD (power) "Digital Supply Voltage (+2.7 V to +5.5 V).", 28 CLOCK (in) "Clock Input.  Data latched on positive edge of clock."

## AD9765AST
designator U?
Dual 12-Bit TxDAC+, 125 Msps, -40 to +85 degC, ST-48, Tray; Generic Part Number: AD9765; Manufacturer: Analog Devices; PartNumber: AD9765AST; # DAC Outputs: 2; Max V+: 5.5V; Op Pwr Diss: 450mW; Resolution (Bits): 12; Settling Time: 35ns; Single Supply: Yes; DatasheetVersion: Rev.G; PackageVersion: revA; PackageReference: ST-48; PackageDescription: 48-Pin Thin Quad Flat Pack 0.5 mm Pitch; Supplier 1: Mouser; Supplier Part Number 1: 584-AD9765AST; Packing: Tray; RoHS: N; Mounting Technology: Surface Mount; ComponentLink1Description: Manufacturer URL; ComponentLink1URL: http://www.analog.com/en/index.html; ComponentLink2Description: Datasheet; ComponentLink2URL: http://www.analog.com/static/imported-files/data_sheets/AD9763_9765_9767.pdf; ComponentLink3Description: Package Specification; ComponentLink3URL: http://www.analog.com/static/imported-files/packages/PKG_PDF/LQFP%28ST%29/ST_48.pdf; ComponentLink4Description: Product URL; ComponentLink4URL: http://www.analog.com/en/digital-to-analog-converters/da-converters/ad9765/products/product.html
footprint ST-48_N (Thin QFP, 48-Leads, Body 7x7mm, Pitch 0.5mm, IPC Medium Density)
footprint ST-48_L (Thin QFP, 48-Leads, Body 7x7mm, Pitch 0.5mm, IPC High Density)
footprint ST-48_M (Thin QFP, 48-Leads, Body 7x7mm, Pitch 0.5mm, IPC Low Density)
pins: 1 DB11P1 (in) "Data Bit Pin (Port 1)", 2 DB10P1 (in) "Data Bit Pin (Port 1)", 3 DB9P1 (in) "Data Bit Pin (Port 1)", 4 DB8P1 (in) "Data Bit Pin (Port 1)", 5 DB7P1 (in) "Data Bit Pin (Port 1)", 6 DB6P1 (in) "Data Bit Pin (Port 1)", 7 DB5P1 (in) "Data Bit Pin (Port 1)", 8 DB4P1 (in) "Data Bit Pin (Port 1)", 9 DB3P1 (in) "Data Bit Pin (Port 1)", 10 DB2P1 (in) "Data Bit Pin (Port 1)", 11 DB1P1 (in) "Data Bit Pin (Port 1)", 12 DB0P1 (in) "Data Bit Pin (Port 1)", 13 NC "No Connect", 14 NC "No Connect", 15 DCOM1 (power) "Digital Common", 16 DVDD1 (power) "Digital Supply Voltage", 17 WRT1/IQWRT (in) "Input Write Signal for PORT 1 (IQWRT in Interleaving Mode)", 18 CLK1/IQCLK (in) "Clock Input for DAC1 (IQCLK in Interleaving Mode)", 19 CLK2/IQRESET (in) "Clock Input for DAC2 (IQRESET in Interleaving Mode)", 20 WRT2/IQSEL (in) "Input Write Signal for PORT 2 (IQSEL in Interleaving Mode)", 21 DCOM2 (power) "Digital Common", 22 DVDD2 (power) "Digital Supply Voltage", 23 DB11P2 (in) "Data Bit Pin (Port 2)", 24 DB10P2 (in) "Data Bit Pin (Port 2)", 25 DB9P2 (in) "Data Bit Pin (Port 2)", 26 DB8P2 (in) "Data Bit Pin (Port 2)", 27 DB7P2 (in) "Data Bit Pin (Port 2)", 28 DB6P2 (in) "Data Bit Pin (Port 2)", 29 DB5P2 (in) "Data Bit Pin (Port 2)", 30 DB4P2 (in) "Data Bit Pin (Port 2)", 31 DB3P2 (in) "Data Bit Pin (Port 2)", 32 DB2P2 (in) "Data Bit Pin (Port 2)", 33 DB1P2 (in) "Data Bit Pin (Port 2)", 34 DB0P2 (in) "Data Bit Pin (Port 2)", 35 NC "No Connect", 36 NC "No Connect", 37 SLEEP (in) "Power-Down Control Input", 38 ACOM (power) "Analog Common", 39 IOUTA2 "Port 2 Differential DAC Current Output", 40 IOUTB2 "Port 2 Differential DAC Current Output", 41 FSADJ2 (in) "Full-Scale Current Output Adjust for DAC2", 42 GAINCTRL (in) "Master/Slave Resistor Control Mode", 43 REFIO (io) "Reference Input/Output", 44 FSADJ1 (in) "Full-Scale Current Output Adjust for DAC1", 45 IOUTB1 "Port 1 Differential DAC Current Outputs", 46 IOUTA1 "Port 1 Differential DAC Current Outputs", 47 AVDD (power) "Analog Supply Voltage", 48 MODE (in) "Mode Select (1 = dual port, 0 = interleaved)"

## AD9765ASTRL
designator U?
Dual 12-Bit TxDAC+, 125 Msps, -40 to +85 degC, ST-48, Reel; Generic Part Number: AD9765; Manufacturer: Analog Devices; PartNumber: AD9765ASTRL; # DAC Outputs: 2; Max V+: 5.5V; Op Pwr Diss: 450mW; Resolution (Bits): 12; Settling Time: 35ns; Single Supply: Yes; DatasheetVersion: Rev.G; PackageVersion: revA; PackageReference: ST-48; PackageDescription: 48-Pin Thin Quad Flat Pack 0.5 mm Pitch; Supplier 1: Newark; Supplier Part Number 1: 98B7493; Supplier 2: Mouser; Supplier Part Number 2: 584-AD9765ASTR; Packing: Reel; RoHS: N; Mounting Technology: Surface Mount; ComponentLink1Description: Manufacturer URL; ComponentLink1URL: http://www.analog.com/en/index.html; ComponentLink2Description: Datasheet; ComponentLink2URL: http://www.analog.com/static/imported-files/data_sheets/AD9763_9765_9767.pdf; ComponentLink3Description: Package Specification; ComponentLink3URL: http://www.analog.com/static/imported-files/packages/PKG_PDF/LQFP%28ST%29/ST_48.pdf; ComponentLink4Description: Product URL; ComponentLink4URL: http://www.analog.com/en/digital-to-analog-converters/da-converters/ad9765/products/product.html
footprint ST-48_N (Thin QFP, 48-Leads, Body 7x7mm, Pitch 0.5mm, IPC Medium Density)
footprint ST-48_L (Thin QFP, 48-Leads, Body 7x7mm, Pitch 0.5mm, IPC High Density)
footprint ST-48_M (Thin QFP, 48-Leads, Body 7x7mm, Pitch 0.5mm, IPC Low Density)
pins: 1 DB11P1 (in) "Data Bit Pin (Port 1)", 2 DB10P1 (in) "Data Bit Pin (Port 1)", 3 DB9P1 (in) "Data Bit Pin (Port 1)", 4 DB8P1 (in) "Data Bit Pin (Port 1)", 5 DB7P1 (in) "Data Bit Pin (Port 1)", 6 DB6P1 (in) "Data Bit Pin (Port 1)", 7 DB5P1 (in) "Data Bit Pin (Port 1)", 8 DB4P1 (in) "Data Bit Pin (Port 1)", 9 DB3P1 (in) "Data Bit Pin (Port 1)", 10 DB2P1 (in) "Data Bit Pin (Port 1)", 11 DB1P1 (in) "Data Bit Pin (Port 1)", 12 DB0P1 (in) "Data Bit Pin (Port 1)", 13 NC "No Connect", 14 NC "No Connect", 15 DCOM1 (power) "Digital Common", 16 DVDD1 (power) "Digital Supply Voltage", 17 WRT1/IQWRT (in) "Input Write Signal for PORT 1 (IQWRT in Interleaving Mode)", 18 CLK1/IQCLK (in) "Clock Input for DAC1 (IQCLK in Interleaving Mode)", 19 CLK2/IQRESET (in) "Clock Input for DAC2 (IQRESET in Interleaving Mode)", 20 WRT2/IQSEL (in) "Input Write Signal for PORT 2 (IQSEL in Interleaving Mode)", 21 DCOM2 (power) "Digital Common", 22 DVDD2 (power) "Digital Supply Voltage", 23 DB11P2 (in) "Data Bit Pin (Port 2)", 24 DB10P2 (in) "Data Bit Pin (Port 2)", 25 DB9P2 (in) "Data Bit Pin (Port 2)", 26 DB8P2 (in) "Data Bit Pin (Port 2)", 27 DB7P2 (in) "Data Bit Pin (Port 2)", 28 DB6P2 (in) "Data Bit Pin (Port 2)", 29 DB5P2 (in) "Data Bit Pin (Port 2)", 30 DB4P2 (in) "Data Bit Pin (Port 2)", 31 DB3P2 (in) "Data Bit Pin (Port 2)", 32 DB2P2 (in) "Data Bit Pin (Port 2)", 33 DB1P2 (in) "Data Bit Pin (Port 2)", 34 DB0P2 (in) "Data Bit Pin (Port 2)", 35 NC "No Connect", 36 NC "No Connect", 37 SLEEP (in) "Power-Down Control Input", 38 ACOM (power) "Analog Common", 39 IOUTA2 "Port 2 Differential DAC Current Output", 40 IOUTB2 "Port 2 Differential DAC Current Output", 41 FSADJ2 (in) "Full-Scale Current Output Adjust for DAC2", 42 GAINCTRL (in) "Master/Slave Resistor Control Mode", 43 REFIO (io) "Reference Input/Output", 44 FSADJ1 (in) "Full-Scale Current Output Adjust for DAC1", 45 IOUTB1 "Port 1 Differential DAC Current Outputs", 46 IOUTA1 "Port 1 Differential DAC Current Outputs", 47 AVDD (power) "Analog Supply Voltage", 48 MODE (in) "Mode Select (1 = dual port, 0 = interleaved)"

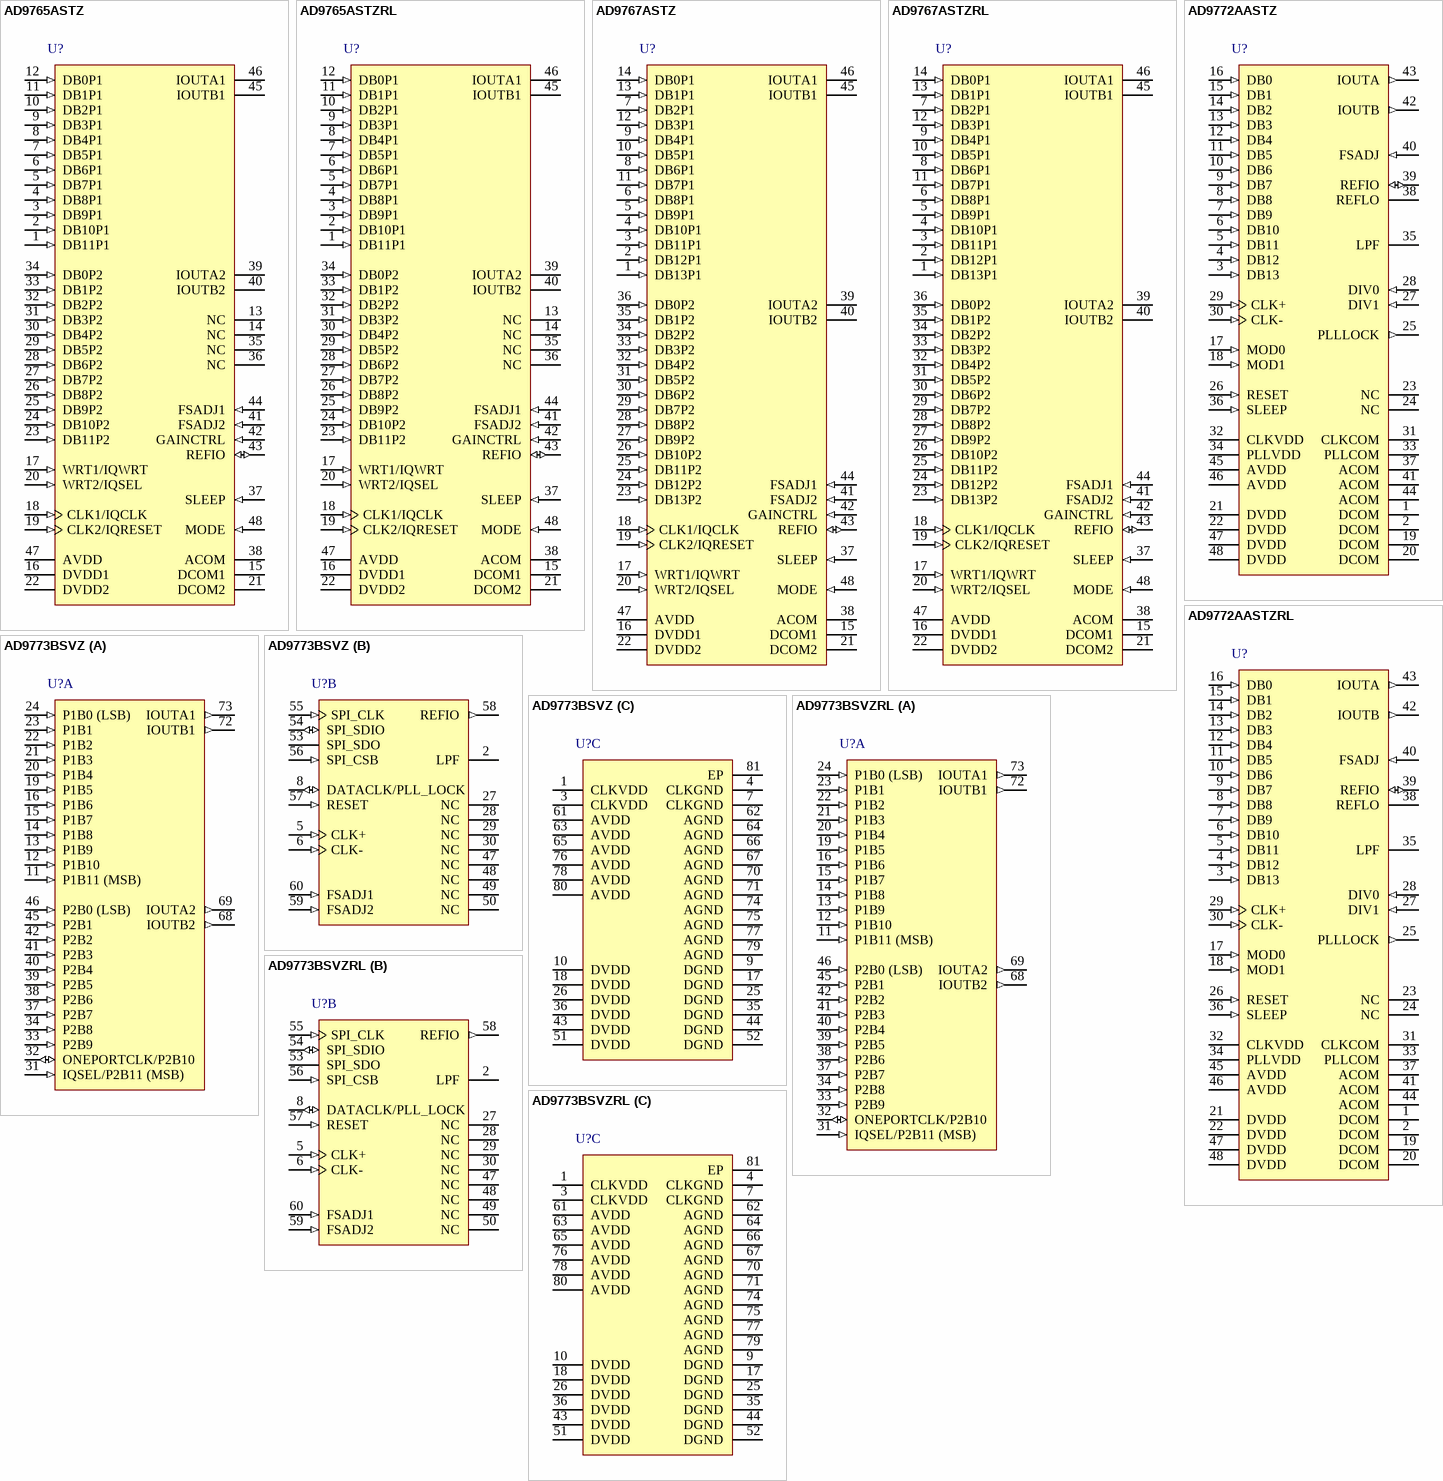
[diagram p100: symbols AD9765ASTZ to AD9773BSVZRL]